# EAGLE library part E40562 (library 7 Segment Anzeige 4 Digit)
Name des Bauteiles:7 Segment Anzeige 4 Digit Daten:4-Digit-Display 14,2 mm rot , gemeinsame Kathode , TOYO: E40562-L-UR-0-W Artikelnummer:#103033 Datenblatt:
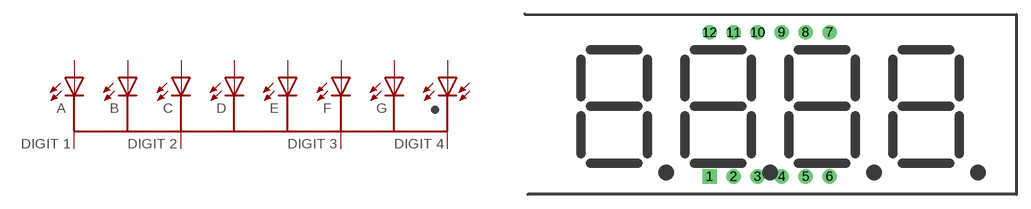
[diagram p0: symbol with the pads of E40562; footprint E40562]

Designator prefix U

## E40562L-UR-0-W  [E40562]
1  E  pas
2  D  pas
3  .  pas
4  C  pas
5  G  pas
6  DIGIT4
7  B  pas
8  DIGIT3
9  DIGIT2
10  F  pas
11  A  pas
12  DIGIT1

## Footprint E40562 (pad centres in mm)
drill 1 square: 1 -12.21,1.9
drill 1: 2 -9.67,1.9; 3 -7.13,1.9; 4 -4.59,1.9; 5 -2.05,1.9; 6 0.49,1.9; 7 0.49,17.14; 8 -2.05,17.14; 9 -4.59,17.14; 10 -7.13,17.14; 11 -9.67,17.14; 12 -12.21,17.14